# EAGLE library part DW1000 (library chips)
Description: The DecaWave DW1000 <https://www.decawave.com/sites/default/files/resources/dw1000-datasheet-v2.13.pdf> chip, used for UWB two-way ranging.
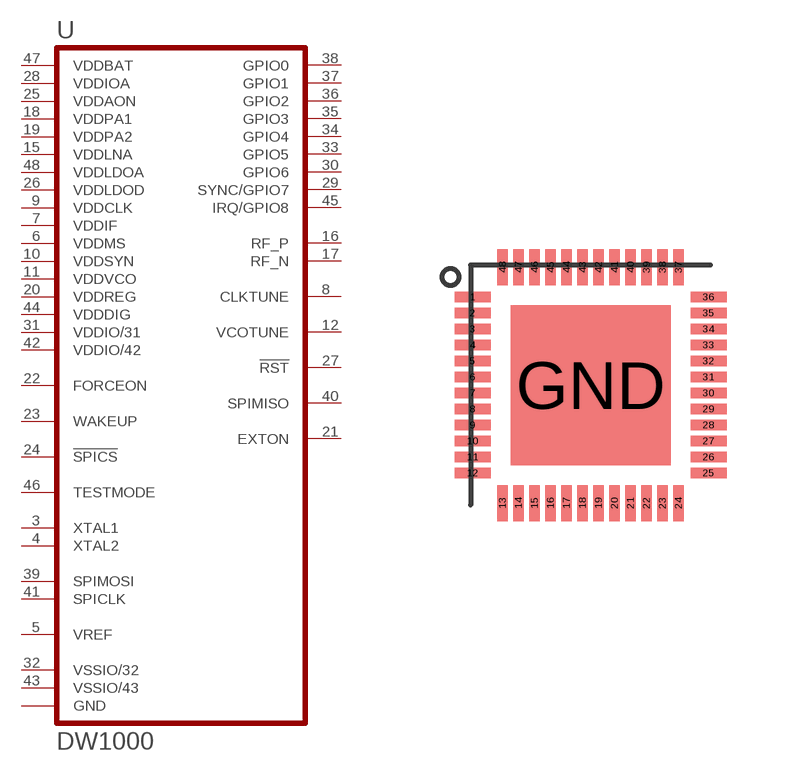
[diagram p91: symbol with the pads of QFN-48-DW1000; footprint QFN-48-DW1000]

Designator prefix U

## DW1000 (DATASHEET: https://www.decawave.com/sites/default/files/resources/dw1000-datasheet-v2.13.pdf; DESCRIPTION: IC RF TXRX 802.15.4 48-QFN; DIGIKEY: 1479-1001-1-ND; MANUFACTURER: Decawave Limited; MPN: DW1000-I-TR13)  [QFN-48-DW1000]
3  XTAL1  in
4  XTAL2  in
5  VREF
6  VDDMS  pwr
7  VDDIF  pwr
8  CLKTUNE
9  VDDCLK  pwr
10  VDDSYN  pwr
11  VDDVCO  pwr
12  VCOTUNE
15  VDDLNA  pwr
16  RF_P
17  RF_N
18  VDDPA1  pwr
19  VDDPA2  pwr
20  VDDREG  pwr
21  EXTON  out
22  FORCEON  in
23  WAKEUP  in
24  !SPICS  in
25  VDDAON  pwr
26  VDDLDOD  pwr
27  !RST
28  VDDIOA  pwr
29  SYNC/GPIO7
30  GPIO6
31  VDDIO/31  pwr
32  VSSIO/32
33  GPIO5
34  GPIO4
35  GPIO3
36  GPIO2
37  GPIO1
38  GPIO0
39  SPIMOSI  in
40  SPIMISO  out
41  SPICLK  in
42  VDDIO/42  pwr
43  VSSIO/43
44  VDDDIG  pwr
45  IRQ/GPIO8
46  TESTMODE  in
47  VDDBAT  pwr
48  VDDLDOA  pwr
GND  GND  pwr

## Footprint QFN-48-DW1000 (pad centres in mm)
Description: Footprint for the DW1000, designed based on the previous version of TriPoint available on Github <https://github.com/lab11/polypoint/tree/master/pcb/tripoint/v2p0>.
smd 0.9 x 0.26: 1 -2.95,2.2; 2 -2.95,1.8; 3 -2.95,1.4; 4 -2.95,1; 5 -2.95,0.6; 6 -2.95,0.2; 7 -2.95,-0.2; 8 -2.95,-0.6; 9 -2.95,-1; 10 -2.95,-1.4; 11 -2.95,-1.8; 12 -2.95,-2.2; 25 2.95,-2.2; 26 2.95,-1.8; 27 2.95,-1.4; 28 2.95,-1; 29 2.95,-0.6; 30 2.95,-0.2; 31 2.95,0.2; 32 2.95,0.6; 33 2.95,1; 34 2.95,1.4; 35 2.95,1.8; 36 2.95,2.2
smd 0.26 x 0.9: 13 -2.2,-2.95; 14 -1.8,-2.95; 15 -1.4,-2.95; 16 -1,-2.95; 17 -0.6,-2.95; 18 -0.2,-2.95; 19 0.2,-2.95; 20 0.6,-2.95; 21 1,-2.95; 22 1.4,-2.95; 23 1.8,-2.95; 24 2.2,-2.95; 37 2.2,2.95; 38 1.8,2.95; 39 1.4,2.95; 40 1,2.95; 41 0.6,2.95; 42 0.2,2.95; 43 -0.2,2.95; 44 -0.6,2.95; 45 -1,2.95; 46 -1.4,2.95; 47 -1.8,2.95; 48 -2.2,2.95
smd 4 x 4: GND 0,0